# Altium schematic symbol library STSPIN220.SchLib: 1 symbol
Pins are listed as number, name and electrical type; pins without a type are passive.

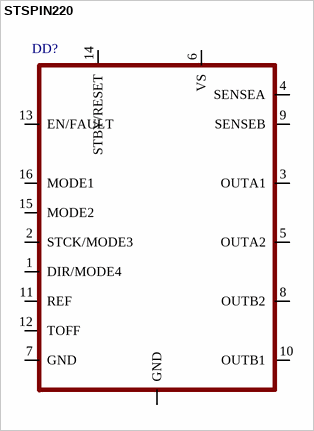
[diagram p0: symbol STSPIN220]

## STSPIN220
designator DD?
pins: 0 GND, 1 DIR/MODE4, 2 STCK/MODE3, 3 OUTA1, 4 SENSEA, 5 OUTA2, 6 VS, 7 GND, 8 OUTB2, 9 SENSEB, 10 OUTB1, 11 REF, 12 TOFF, 13 EN/FAULT, 14 STBY/RESET, 15 MODE2, 16 MODE1